# Altium schematic symbol library SnapEDAsch.SchLib: 1 symbol
Pins are listed as number, name and electrical type; pins without a type are passive.

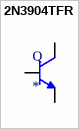
[diagram p0: symbol 2N3904TFR]

## 2N3904TFR
designator Q
Bipolar _BJT_ Transistor NPN 40V 200mA 300MHz 625mW Through Hole TO-92-3; MF: ON Semiconductor; MP: 2N3904TFR; Price: None; Availability: Unavailable; Package: TO-92 Fairchild Semiconductor; SnapEDA_Link: https://www.snapeda.com/parts/2N3904TFR/ON%20Semiconductor/view-part/272935/?ref=snap; Value: *
footprint TO92254P520H877-3
pins: 1 E, 2 B, 3 C